# Altium integrated library 2336582-1.IntLib: 1 symbol
Pins are listed as number, name and electrical type; pins without a type are passive.

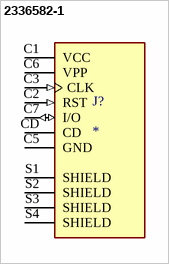
[diagram p0: symbol 2336582-1]

## 2336582-1
designator J?
PUSH-PUSH NANO SIM CONNECTOR; MP: 2336582-1; Package: None; Price: None; Value: *; Availability: Unavailable
footprint TE_2336582-1
pins: C1 VCC (power), C2 RST (in), C3 CLK (in), C5 GND (power), C6 VPP (power), C7 I/O (io), CD, S1 SHIELD, S2 SHIELD, S3 SHIELD, S4 SHIELD